# EAGLE library part CCU (library andereBauteile)
C-Control Unit Microcontroller der Firma Conrad
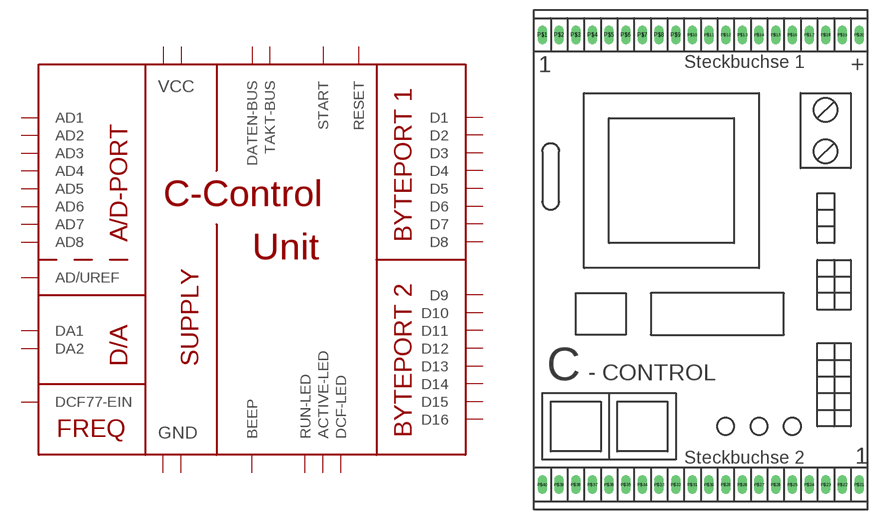
[diagram p1: symbol with the pads of CCU; footprint CCU]

Designator prefix IC

## CCUCCU  [CCU]
P$1  GND  pwr
P$2  AD/UREF  in
P$3  AD1  in
P$4  AD2  in
P$5  AD3  in
P$6  AD4  in
P$7  AD5  in
P$8  AD6  in
P$9  AD7  in
P$10  AD8  in
P$11  BEEP  out
P$12  D9
P$13  D10
P$14  D11
P$15  D12
P$16  D13
P$17  D14
P$18  D15
P$19  D16
P$20  VCC  pwr
P$21  VCC  pwr
P$22  D1
P$23  D2
P$24  D3
P$25  D4
P$26  D5
P$27  D6
P$28  D7
P$29  D8
P$30  START  in
P$31  DATEN-BUS  in
P$32  TAKT-BUS  in
P$33  RUN-LED  out
P$34  ACTIVE-LED  out
P$35  DCF-LED  out
P$36  DA1  out
P$37  DA2  out
P$38  DCF77-EIN  in
P$39  RESET  in
P$40  GND  pwr

## Footprint CCU (pad centres in mm)
drill 0.813 pad 1.422 long: P$1 -24.13,34.29; P$2 -21.59,34.29; P$3 -19.05,34.29; P$4 -16.51,34.29; P$5 -13.97,34.29; P$6 -11.43,34.29; P$7 -8.89,34.29; P$8 -6.35,34.29; P$9 -3.81,34.29; P$10 -1.27,34.29; P$11 1.27,34.29; P$12 3.81,34.29; P$13 6.35,34.29; P$14 8.89,34.29; P$15 11.43,34.29; P$16 13.97,34.29; P$17 16.51,34.29; P$18 19.05,34.29; P$19 21.59,34.29; P$20 24.13,34.29; P$21 24.13,-34.29; P$22 21.59,-34.29; P$23 19.05,-34.29; P$24 16.51,-34.29; P$25 13.97,-34.29; P$26 11.43,-34.29; P$27 8.89,-34.29; P$28 6.35,-34.29; P$29 3.81,-34.29; P$30 1.27,-34.29; P$31 -1.27,-34.29; P$32 -3.81,-34.29; P$33 -6.35,-34.29; P$34 -8.89,-34.29; P$35 -11.43,-34.29; P$36 -13.97,-34.29; P$37 -16.51,-34.29; P$38 -19.05,-34.29; P$39 -21.59,-34.29; P$40 -24.13,-34.29